# Altium footprint library Fedor's_pcb.PcbLib: 174 footprints (part 2 of 14)
Each footprint in its own frame and in the unit in brackets; x right, y up, seen from the top. Pads: shape width x height; smd on the part's side, far side on the other; paste and mask are expansions set on the pad; w line width, h text height; cw(c..) or ccw(c..) is an arc to the next point about the centre after c.
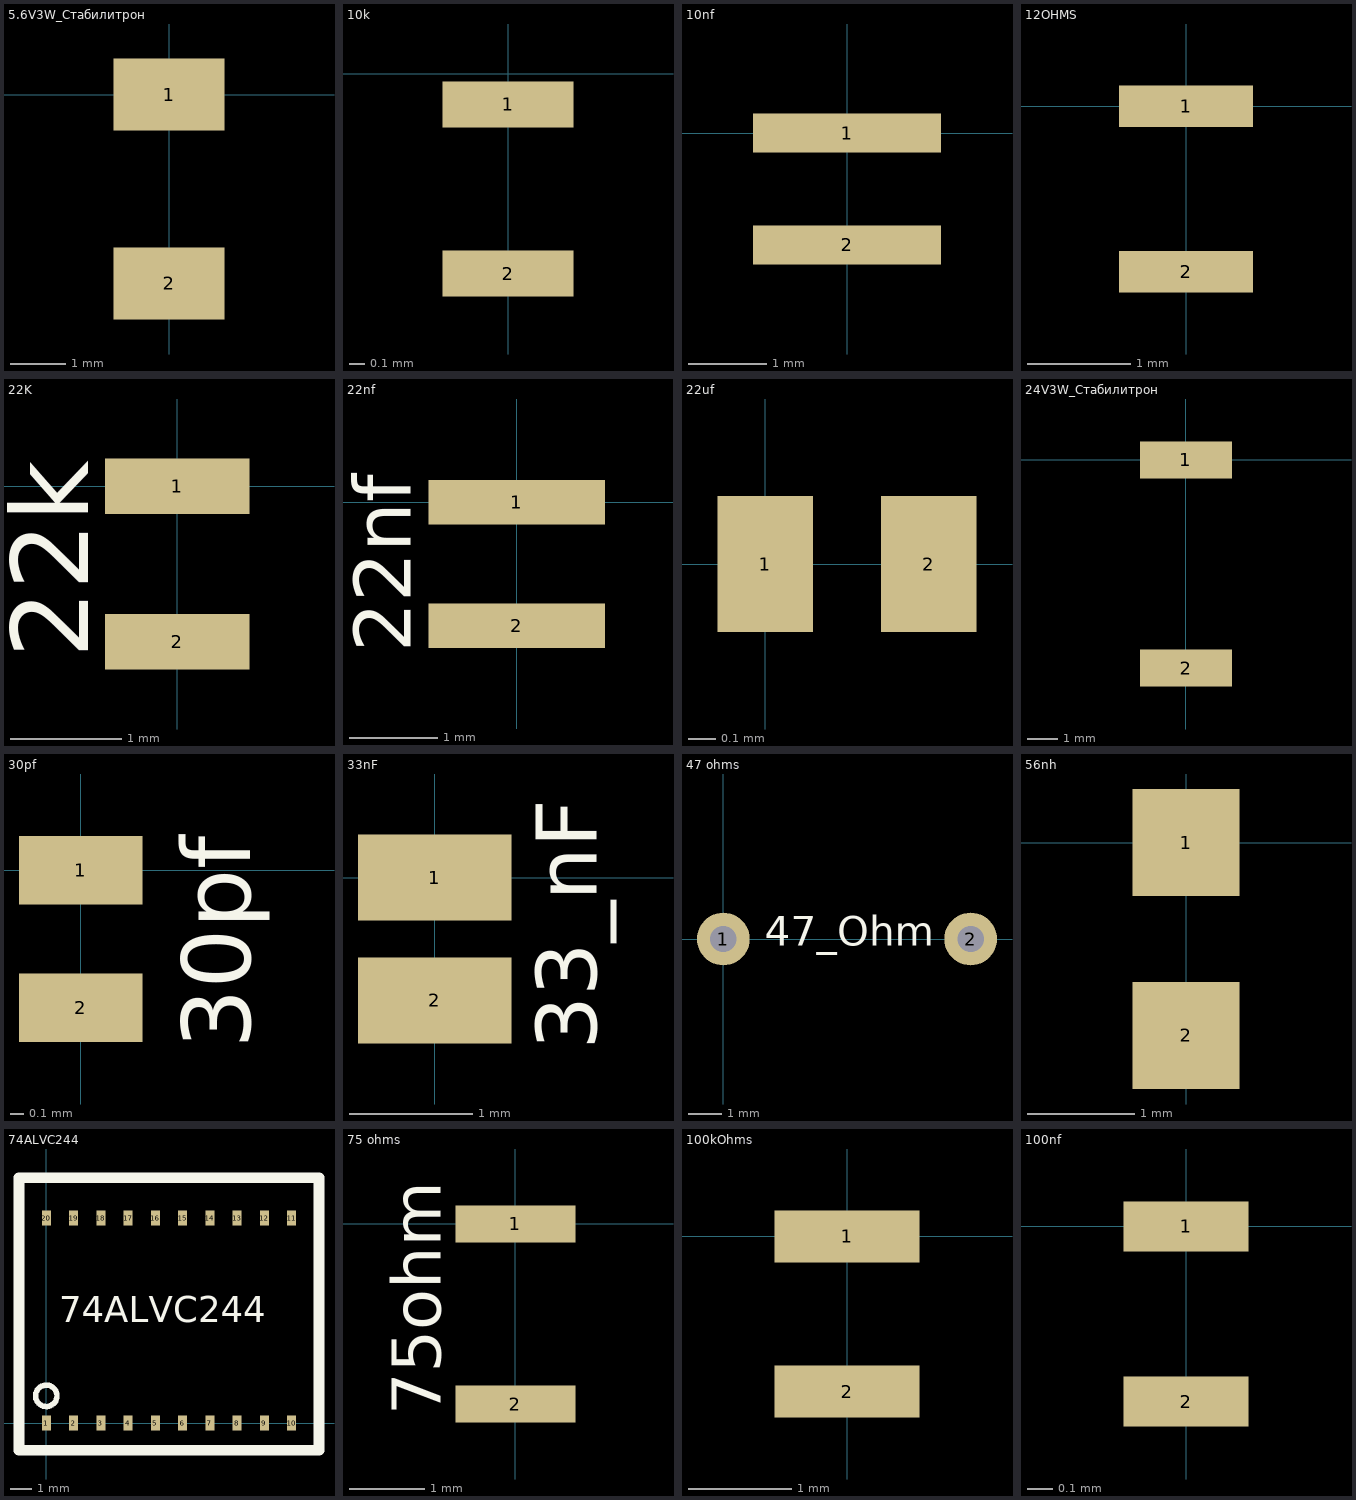
[diagram p1: the footprints below, top view; thin cyan lines are the x and y axes]

## 5.6V3W_Стабилитрон [mm] "1SMB5919B, Стабилитрон 5.6В 5% 3Вт [SMB]"
pads (2):
  rect 2x1.3 smd mask+0.05: 1(0,0) 2(0,-3.4)
3D body "5.6V3W.stp": height 2.2, standoff 0.01, extent -1.649,-4.234 1.651,0.577

## 10k [mm] "Типоразмер EIA 0603"
pads (2):
  rect 0.85x0.3 smd mask+0.05: 1(0,-0.2) 2(0,-1.3)
3D body "10кОм.stp": height 0.45, standoff -0.01, extent -0.425,-1.562 0.425,0.038

## 10nf [mm] "типоразмер EIA 0603"
pads (2):
  rect 2.4x0.5 smd: 1(0,0) 2(0,-1.425)
3D body "100кОм.stp": height 0.5, standoff 0, extent -0.563,-1.761 0.737,0.339

## 12OHMS [mm] "RMCF0805FT12R0, Thick Film Resistors - SMD 12Ohms 0805 0.125W 1% Std Power AEC-Q200"
pads (2):
  rect 1.3x0.4 smd mask+0.05: 1(0,0) 2(0,-1.6)
3D body "12Ом.stp": height 0.49, standoff -0.01, extent -0.65,-1.863 0.65,0.237

## 22K [mm]
pads (2):
  rect 1.3x0.5 smd: 1(0,0) 2(0,-1.4)
Top Overlay:
  text "22k" at -0.8,-1.55 h0.7

## 22nf [mm]
pads (2):
  rect 2x0.5 smd: 1(0,0) 2(0,-1.4)
Top Overlay:
  text "22nf" at -1.2,-1.7 h0.65

## 22uf [mm]
pads (2):
  rect 0.35x0.5 smd mask+0.05: 1(0,0) 2(0.6,0)

## 24V3W_Стабилитрон [mm] "Z3SMC24, Диод стабилитрон, 3Вт, 24В"
pads (2):
  rect 3x1.2 smd mask+0.05: 1(0,0) 2(0,-6.8)
3D body "24V3W.stp": height 2.3, standoff 0, extent -3.006,-7.248 2.794,0.847

## 30pf [mm]
pads (2):
  rect 0.9x0.5 smd: 1(0,0) 2(0,-1)
Top Overlay:
  text "30pf" at 1.233,-1.3 h0.5

## 33nF [mm]
pads (2):
  rect 1.25x0.7 smd: 1(0,0) 2(0,-1)
Top Overlay:
  text "33_nF" at 1.317,-1.4 h0.5

## 47 ohms [mm]
pads (2):
  round 1.6 hole 0.8: 1(0,0) 2(7.5,0)
Top Overlay:
  text "47_Ohm" at 1.25,-0.2 h0.9

## 56nh [mm]
pads (2):
  rect 1x1 smd: 1(0,0) 2(0,-1.8)

## 74ALVC244 [mm] "BUFFER"
pads (20):
  rect 0.42x0.7 smd mask+0.07: 1(0,0) 2(1.27,0) 3(2.54,0) 4(3.81,0) 5(5.08,0) 6(6.35,0) 7(7.62,0) 8(8.89,0) 9(10.16,0) 10(11.43,0) 11(11.43,9.55) 12(10.16,9.55) 13(8.89,9.55) 14(7.62,9.55) 15(6.35,9.55) 16(5.08,9.55) 17(3.81,9.55) 18(2.54,9.55) 19(1.27,9.55) 20(0,9.55)
Top Overlay:
  circle w0.254: c0,1.27 r0.5
  lines w0.5: -1.27,-1.27 -1.27,10.16 -1.27,11.43 1.27,11.43 12.7,11.43 12.7,-1.27 -1.27,-1.27
  text "74ALVC244" at 0.604,4.704 h1.2

## 75 ohms [mm]
pads (2):
  rect 1.6x0.5 smd: 1(0,0) 2(0,-2.4)
Top Overlay:
  text "75ohm" at -1,-2.55 h0.65

## 100kOhms [mm] "0.125Вт 0805 100 кОм, 5%, Чип резистор (SMD)"
pads (2):
  rect 1.4x0.5 smd: 1(0,0) 2(0,-1.5)
3D body "100кОм.stp": height 0.5, standoff 0, extent -0.64,-1.812 0.66,0.288

## 100nf [mm] "Размер 0402"
pads (2):
  rect 0.5x0.2 smd mask+0.05: 1(0,0) 2(0,-0.7)
3D body "100nF.stp": height 0.35, standoff -0.01, extent -0.246,-0.856 0.254,0.144